# EAGLE library part GPS-TIM (library gps)
GPS macro component © u-blox ag, 1997-2003 http://www.u-blox.com
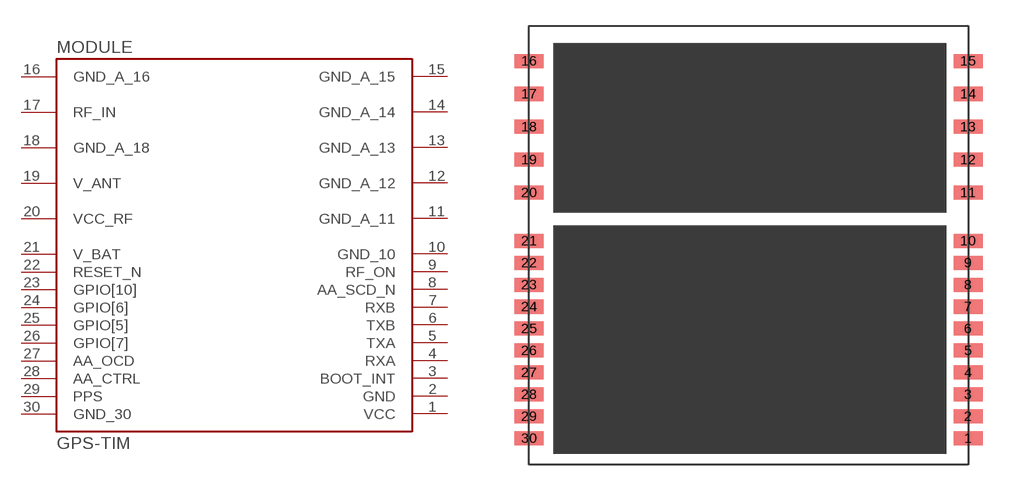
[diagram p0: symbol with the pads of GPS_TIM; footprint GPS_TIM]

Designator prefix MODULE

## GPS-TIM  [GPS_TIM]
1  VCC  pwr
2  GND  pwr
3  BOOT_INT  in
4  RXA  in
5  TXA  out
6  TXB  out
7  RXB  in
8  AA_SCD_N  in
9  RF_ON  out
10  GND_10  in
11  GND_A_11  in
12  GND_A_12  in
13  GND_A_13  in
14  GND_A_14  in
15  GND_A_15  in
16  GND_A_16  in
17  RF_IN  in
18  GND_A_18  in
19  V_ANT  in
20  VCC_RF  out
21  V_BAT  in
22  RESET_N  in
23  GPIO[10]  in
24  GPIO[6]
25  GPIO[5]
26  GPIO[7]
27  AA_OCD  in
28  AA_CTRL  out
29  PPS  out
30  GND_30  in

## Footprint GPS_TIM (pad centres in mm)
GPS
smd 1.676 x 0.813: 1 12.7,-11.176; 2 12.7,-9.906; 3 12.7,-8.636; 4 12.7,-7.366; 5 12.7,-6.096; 6 12.7,-4.826; 7 12.7,-3.556; 8 12.7,-2.286; 9 12.7,-1.016; 10 12.7,0.254; 11 12.7,3.048; 12 12.7,4.953; 13 12.7,6.858; 14 12.7,8.763; 15 12.7,10.668; 16 -12.7,10.668; 17 -12.7,8.763; 18 -12.7,6.858; 19 -12.7,4.953; 20 -12.7,3.048; 21 -12.7,0.254; 22 -12.7,-1.016; 23 -12.7,-2.286; 24 -12.7,-3.556; 25 -12.7,-4.826; 26 -12.7,-6.096; 27 -12.7,-7.366; 28 -12.7,-8.636; 29 -12.7,-9.906; 30 -12.7,-11.176